# Altium footprint library RTXXX - 2 form A.PcbLib: 1 footprints
Each footprint in its own frame and in the unit in brackets; x right, y up, seen from the top. Pads: shape width x height; smd on the part's side, far side on the other; paste and mask are expansions set on the pad; w line width, h text height; cw(c..) or ccw(c..) is an arc to the next point about the centre after c.
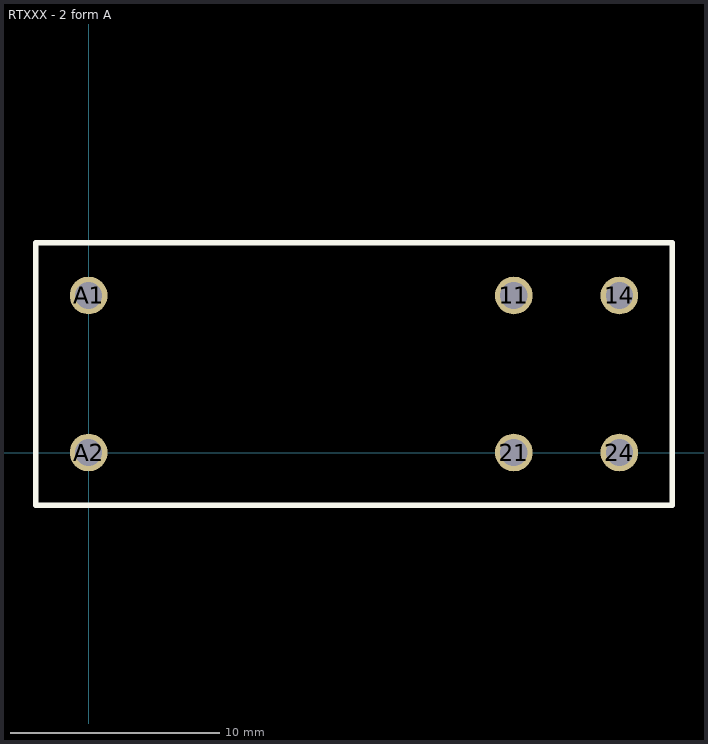
[diagram p0: the footprint, top view; thin cyan lines are the x and y axes]

## RTXXX - 2 form A [mm] "DPST Schrack Power Relay (2 form A contacts)"
pads (6):
  round 1.8 hole 1.3: 11(20.3,7.5) 14(25.34,7.5) 21(20.3,0) 24(25.34,0) A1(0,7.5) A2(0,0)
Top Overlay:
  lines w0.254: -2.52,-2.52 -2.52,10.02 27.86,10.02 27.86,-2.52 -2.52,-2.52